# EAGLE library part 691308330012 (library Wurth_Connectors_WR-TBL Pluggable Connector)
WR-TBL Serie 3083 - 3.81 mm Vertical Reserved PCB Header with Flanges KIND PROPERTIES Pitch 3.81 mm MATERIAL PROPERTIES Insulator Material PA66 Insulator Flammability Rating UL94 V-0 Contact Material Copper Alloy Contact Plating Tin Contact Type Stamped GENERAL INFORMATION Operating Temperature -40 up to +115 °C Compliance RoHS ELECTRICAL PROPERTIES IR UL 8 A Working Voltage [UL] 300 V (AC) Withstanding Voltage [cULus] 1600 V (AC) Contact Resistance [cULus] 20 mΩ Mechanical Properties Wire Strip Length 7 CERTIFICATION UL Approval E315414 <https://www.we-online.com/catalog/media/o60784v209%20WR-TBL_6913083300xx_4C.jpg> Details see: https://www.we-online.com/catalog/en/TBL_3_81_3083_VERTICAL_RESERVED_PCB_HEADER_W_FLANGES_6913083300XX/ Updated by Ella Wu 2022-07-25 2022(C) Wurth Elektronik
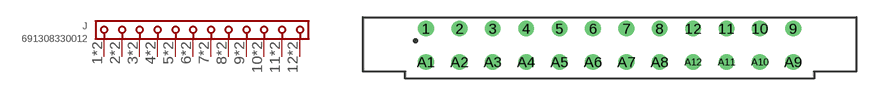
[diagram p104: symbol with the pads of 691308330012; footprint 691308330012]

Designator prefix J

## 691308330012 (DATASHEET-URL: https://www.we-online.com/redexpert/spec/691308330012?ae; IR-UL: 8A; MOUNT: THT; PART-NUMBER: 691308330012; PINS: 12; PITCH: 3.81mm; TYPE: Vertical PCB Header; VALUE: 691308330012; WORKING-VOLTAGE-UL: 300V (AC))  [691308330012]
1  1  pas
2  2  pas
3  3  pas
4  4  pas
5  5  pas
6  6  pas
7  7  pas
8  8  pas
9  9  pas
10  10  pas
11  11  pas
12  12  pas
A1  1  pas
A2  2  pas
A3  3  pas
A4  4  pas
A5  5  pas
A6  6  pas
A7  7  pas
A8  8  pas
A9  9  pas
A10  10  pas
A11  11  pas
A12  12  pas

## Footprint 691308330012 (pad centres in mm)
WR-TBL Serie 3083 - 3.81 mm Vertical Reserved PCB Header with Flanges Max Height = 14.5mm , Pitch 3.81mm , 12pins
drill 1.2: 1 -20.955,1.905; 2 -17.145,1.905; 3 -13.335,1.905; 4 -9.525,1.905; 5 -5.715,1.905; 6 -1.905,1.905; 7 1.905,1.905; 8 5.715,1.905; 9 20.955,1.905; 10 17.145,1.905; 11 13.335,1.905; 12 9.525,1.905; A1 -20.955,-1.905; A2 -17.145,-1.905; A3 -13.335,-1.905; A4 -9.525,-1.905; A5 -5.715,-1.905; A6 -1.905,-1.905; A7 1.905,-1.905; A8 5.715,-1.905; A9 20.955,-1.905; A10 17.145,-1.905; A11 13.335,-1.905; A12 9.525,-1.905